# Altium schematic symbol library con-coax.SCHLIB: 29 symbols
Pins are listed as number, name and electrical type; pins without a type are passive.

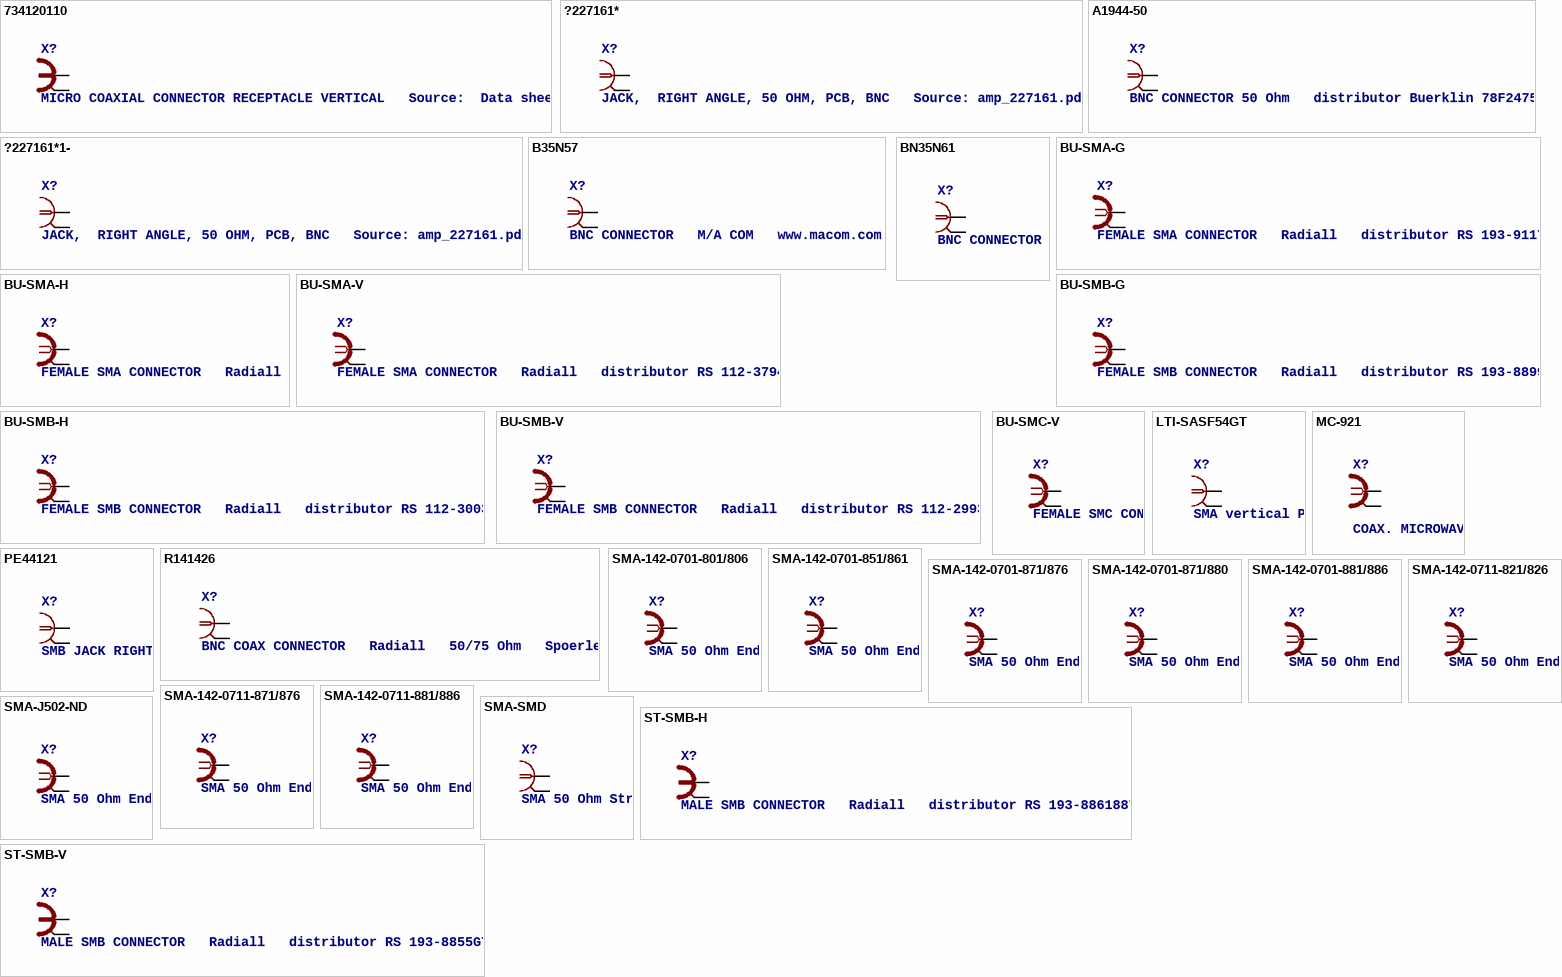
[diagram p0: symbols 734120110 to ST-SMB-V]

## 734120110
designator X?, comment MICRO COAXIAL CONNECTOR RECEPTACLE VERTICAL   Source:  Data sheet
footprint 734120110
pins: 1, S@1 S@2 S@3 2

## ?227161*
designator X?, comment JACK,  RIGHT ANGLE, 50 OHM, PCB, BNC   Source: amp_227161.pdf
OC_FARNELL: unknown; OC_NEWARK: unknown
footprint AMP_227161
pins: 1, 2

## ?227161*1-
designator X?, comment JACK,  RIGHT ANGLE, 50 OHM, PCB, BNC   Source: amp_227161.pdf
MPN: 1-227161; MPN: 1-227161-6; MPN: 1-227161-7; MF: TYCO ELECTRONICS; OC_FARNELL: unknown; OC_NEWARK: 33B3200; OC_NEWARK: unknown; OC_NEWARK: 09H7854; OC_NEWARK: 09H7855
footprint AMP_227161
pins: 1, 2

## A1944-50
designator X?, comment BNC CONNECTOR 50 Ohm   distributor Buerklin 78F2475
OC_FARNELL: unknown; OC_NEWARK: unknown
footprint A1944
pins: 1, 2 3 4 5 2

## B35N57
designator X?, comment BNC CONNECTOR   M/A COM   www.macom.com
OC_FARNELL: unknown; OC_NEWARK: unknown
footprint B35N57
pins: 1, 2 3 4 5 2

## BN35N61
designator X?, comment BNC CONNECTOR   M/A COM   www.macom.com   distributor Farnell 149-452
OC_FARNELL: unknown; OC_NEWARK: unknown
footprint B35N61
pins: 1, 2 3 4 5 2

## BU-SMA-G
designator X?, comment FEMALE SMA CONNECTOR   Radiall   distributor RS 193-9117
OC_FARNELL: unknown; OC_NEWARK: unknown
footprint BU-SMA-G
pins: 1, 2 3 4 5 2

## BU-SMA-H
designator X?, comment FEMALE SMA CONNECTOR   Radiall
OC_FARNELL: unknown; OC_NEWARK: unknown
footprint BU-SMA-H
pins: 1, 2 3 4 5 2

## BU-SMA-V
designator X?, comment FEMALE SMA CONNECTOR   Radiall   distributor RS 112-3794
OC_FARNELL: unknown; OC_NEWARK: unknown
footprint BU-SMA-V
pins: 1, 2 3 4 5 2

## BU-SMB-G
designator X?, comment FEMALE SMB CONNECTOR   Radiall   distributor RS 193-8899
OC_FARNELL: unknown; OC_NEWARK: unknown
footprint BU-SMB-G
pins: 1, 2 3 4 5 2

## BU-SMB-H
designator X?, comment FEMALE SMB CONNECTOR   Radiall   distributor RS 112-3003
OC_FARNELL: unknown; OC_NEWARK: unknown
footprint BU-SMB-H
pins: 1, 2 3 4 5 2

## BU-SMB-V
designator X?, comment FEMALE SMB CONNECTOR   Radiall   distributor RS 112-2993
OC_FARNELL: unknown; OC_NEWARK: unknown
footprint BU-SMB-V
pins: 1, 2 3 4 5 2

## BU-SMC-V
designator X?, comment FEMALE SMC CONNECTOR   Radiall   R112 426   distributor RS 295-5429
OC_FARNELL: unknown; OC_NEWARK: unknown
footprint BU-SMC-V
pins: 1, 2 3 4 5 2

## LTI-SASF54GT
designator X?, comment SMA vertical PCB thrue hole jack   Source: Lighthorse Technologies, inc. SASF54GT.pdf
OC_FARNELL: unknown; OC_NEWARK: unknown
footprint LTI-SASF54GT
pins: 1, 2 3 4 5 2

## MC-921
designator X?, comment COAX. MICROWAVE CONNECTOR O/D diam 2.1   Source: www.tycoelectronics.com .. Electronics .. ENG_CD_1775146_A2.pdf
OC_FARNELL: unknown; OC_NEWARK: unknown
footprint MC-921
pins: 1, 2@1 2@2 GND@1

## PE44121
designator X?, comment SMB JACK RIGHT ANGLE SURFACE MOUNT   Source: http://www.pasternack.com/Pdf/PE44121.pdf
OC_FARNELL: unknown; OC_NEWARK: unknown
footprint PE44121
pins: 1, 2@1 2@2 2@3 2@4 2@5 2@6 2

## R141426
designator X?, comment BNC COAX CONNECTOR   Radiall   50/75 Ohm   Spoerle
MPN: R141426161; MF: FARNELL; OC_FARNELL: 4195115; OC_NEWARK: 14J7919
footprint R141426
pins: 1, 2 3 4 5 2

## SMA-142-0701-801/806
designator X?, comment SMA 50 Ohm End Launch Jack Receptacle - Round Contact   Johnson Components Source: www.johnsoncomponents.com .. J502-ND.pdf
MPN: 142-0701-801; MF: JOHNSON COMPONENTS; OC_FARNELL: 1608592; OC_NEWARK: 90F2624
footprint J502-ND-142-0701-801/806
pins: 1, G@1 G@2 G@3 G@4 2

## SMA-142-0701-851/861
designator X?, comment SMA 50 Ohm End Launch Jack Receptacle - Round Contact   Johnson Components Source: www.johnsoncomponents.com .. J502-ND.pdf
MPN: 142-0701-851; MF: JOHNSON COMPONENTS; OC_FARNELL: 1019325; OC_NEWARK: 99F6798
footprint J502-ND-142-0701-851/861
pins: 1, G@1 G@2 G@3 G@4 2

## SMA-142-0701-871/876
designator X?, comment SMA 50 Ohm End Launch Jack Receptacle - Round Contact   Johnson Components Source: www.johnsoncomponents.com .. J502-ND.pdf
MPN: 142-0701-871; MF: JOHNSON COMPONENTS; OC_FARNELL: 1339835; OC_NEWARK: 91B6105
footprint J502-ND-142-0701-871/876
pins: 1, G@1 G@2 G@3 G@4 2

## SMA-142-0701-871/880
designator X?, comment SMA 50 Ohm End Launch Jack Receptacle - Round Contact   Johnson Components Source: www.johnsoncomponents.com .. J502-ND.pdf
MPN: 142-0701-871; MF: JOHNSON COMPONENTS; OC_FARNELL: 1339835; OC_NEWARK: 91B6105
footprint SMA-142-0701-871
pins: 1, 2@1 2@2 2@3 2@4 2

## SMA-142-0701-881/886
designator X?, comment SMA 50 Ohm End Launch Jack Receptacle - Round Contact   Johnson Components Source: www.johnsoncomponents.com .. J502-ND.pdf
MPN: 142-0701-881; MF: JOHNSON COMPONENTS; OC_FARNELL: 1608603; OC_NEWARK: 08B906
footprint J502-ND-142-0701-881/886
pins: 1, G@1 G@2 G@3 G@4 2

## SMA-142-0711-821/826
designator X?, comment SMA 50 Ohm End Launch Jack Receptacle - Round Contact   Johnson Components Source: www.johnsoncomponents.com .. J502-ND.pdf
MPN: 142-0711-821; MF: JOHNSON COMPONENTS; OC_FARNELL: 1019328; OC_NEWARK: 16F3627
footprint J502-ND-142-0711-821/826
pins: 1, G@1 G@2 G@3 G@4 2

## SMA-142-0711-871/876
designator X?, comment SMA 50 Ohm End Launch Jack Receptacle - Round Contact   Johnson Components Source: www.johnsoncomponents.com .. J502-ND.pdf
MPN: 142-0711-871; MF: JOHNSON COMPONENTS; OC_FARNELL: unknown; OC_NEWARK: 01C1639
footprint J502-ND-142-0711-871/876
pins: 1, G@1 G@2 G@3 G@4 2

## SMA-142-0711-881/886
designator X?, comment SMA 50 Ohm End Launch Jack Receptacle - Round Contact   Johnson Components Source: www.johnsoncomponents.com .. J502-ND.pdf
MPN: 142-0711-881; MF: JOHNSON COMPONENTS; OC_FARNELL: unknown; OC_NEWARK: 50B4464
footprint J502-ND-142-0711-881/886
pins: 1, G@1 G@2 G@3 G@4 2

## SMA-J502-ND
designator X?, comment SMA 50 Ohm End Launch Jack Receptacle - Round Contact   Johnson Components Source: www.johnsoncomponents.com .. J502-ND.pdf
OC_FARNELL: unknown; OC_NEWARK: unknown
footprint J502-ND
pins: 1, 2 3 4 5 2

## SMA-SMD
designator X?, comment SMA 50 Ohm Straight Jack Receptacle - Surface Mount   www.johnsoncomponents.com Source:  http://catalog.digikey.com .. 142-0711-201, 205, 202, 206.pdf
OC_FARNELL: unknown; OC_NEWARK: unknown
footprint SMA-SMD
pins: 1, 2@1 2@2 2@3 2@4 2@5 2@6 2

## ST-SMB-H
designator X?, comment MALE SMB CONNECTOR   Radiall   distributor RS 193-8861887
OC_FARNELL: unknown; OC_NEWARK: unknown
footprint ST-SMB-H
pins: 1, 2 3 4 5 2

## ST-SMB-V
designator X?, comment MALE SMB CONNECTOR   Radiall   distributor RS 193-8855G7
OC_FARNELL: unknown; OC_NEWARK: unknown
footprint ST-SMB-V
pins: 1, 2 3 4 5 2